# Altium footprint library ATK-2014-09-12.PcbLib: 439 footprints (part 23 of 28)
Each footprint in its own frame and in the unit in brackets; x right, y up, seen from the top. Pads: shape width x height; smd on the part's side, far side on the other; paste and mask are expansions set on the pad; w line width, h text height; cw(c..) or ccw(c..) is an arc to the next point about the centre after c.
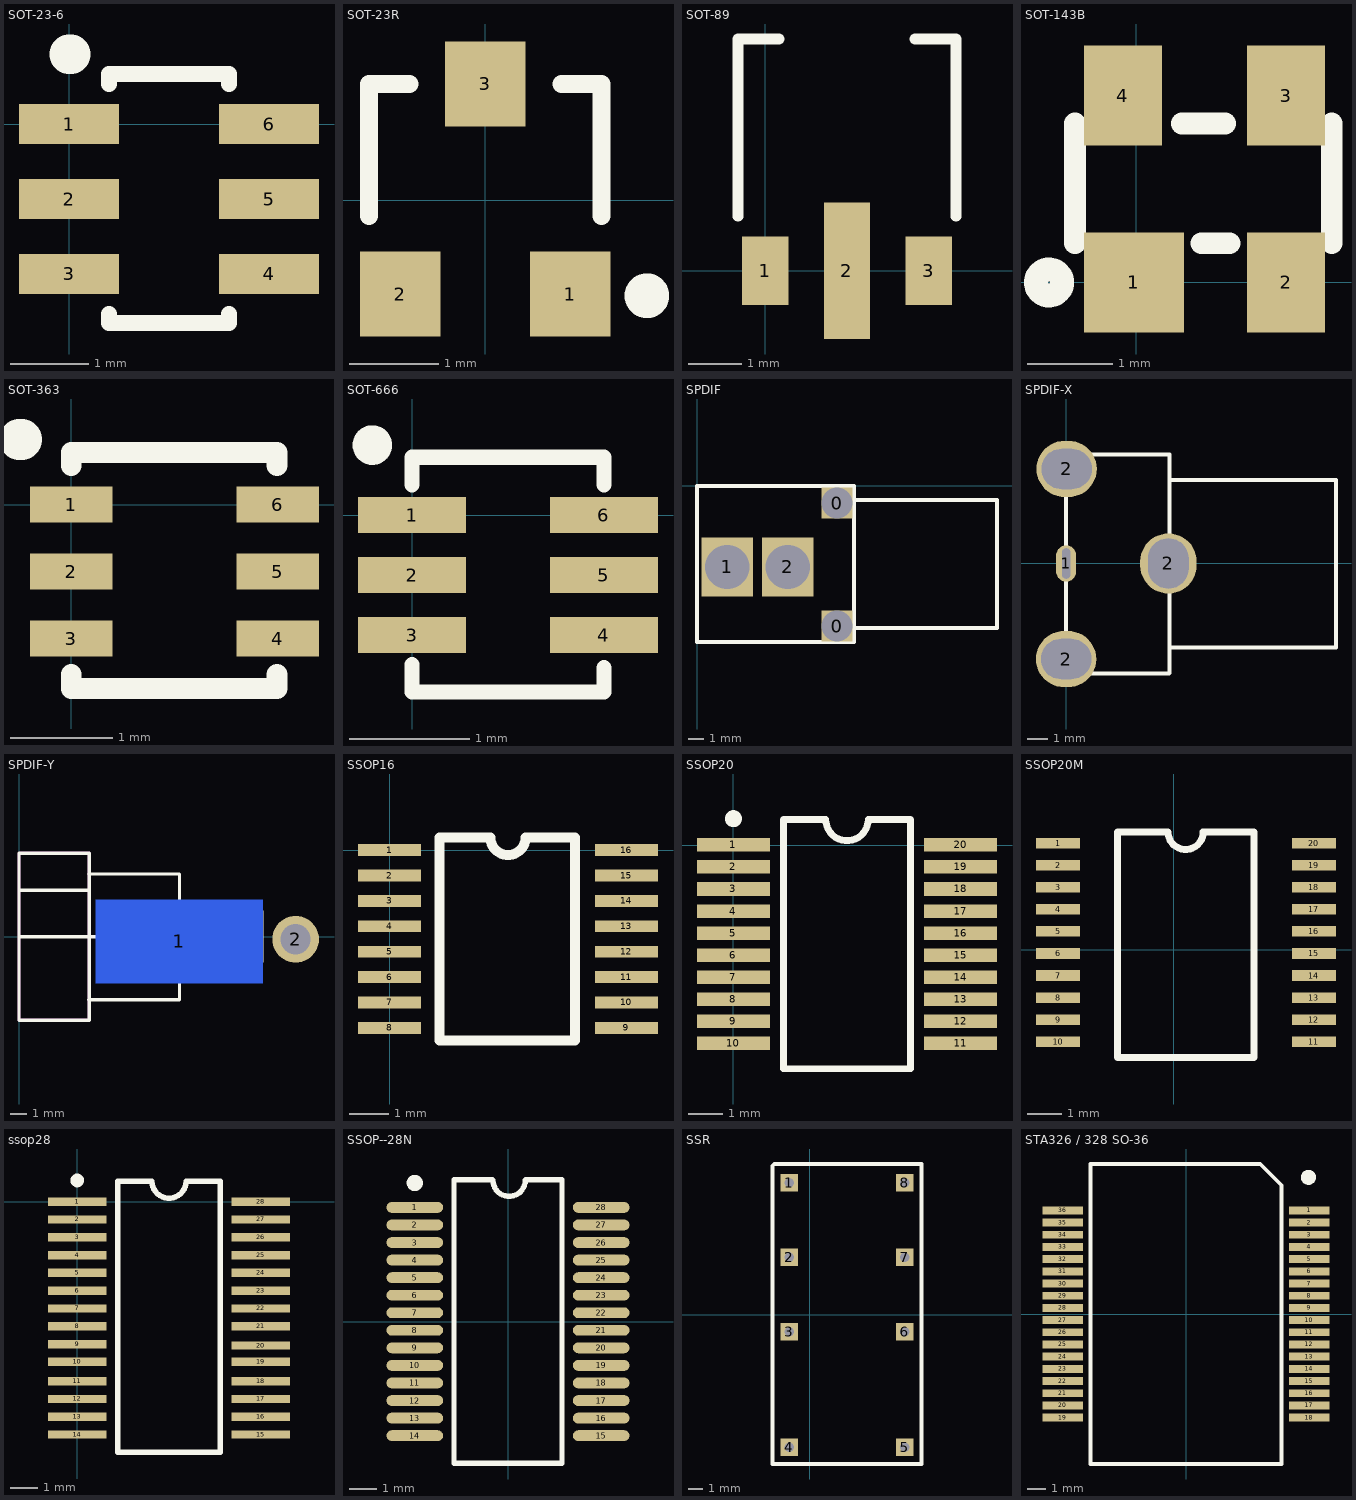
[diagram p22: the footprints below, top view; thin cyan lines are the x and y axes]

## SOT-23-6 [mil]
height 78.74
pads (6):
  rect 50x20 smd: 1(0,0) 2(0,-37.4) 3(0,-74.8) 4(100,-74.8) 5(100,-37.4) 6(100,0)
Top Overlay:
  lines w8: 20,-95 20,-99.32 80,-99.32 80,-95 ; 20,20 20,25 80,25 80,20
  lines w19.68: 0,35 1,35

## SOT-23R [mm] "SOT-23; 3 Leads; Body 3.0 x 2.5 mm, inc. leads (LxW max)"
height 1.2
pads (3):
  rect 0.9x0.95 smd: 1(0.95,-1.048) 2(-0.95,-1.048) 3(0,1.302)
Top Overlay:
  circle w0.25: c1.805,-1.067 r0.125
  lines w0.2: -1.3,-0.173 -1.3,1.302 -0.85,1.302 ; 0.85,1.302 1.3,1.302 1.3,-0.173

## SOT-89 [mil]
pads (3):
  rect 34x50 smd: 1(0,0) 3(120,0)
  rect 34x100 smd: 2(60,0)
Top Overlay:
  lines w8: -20,40 -20,170 10,170 ; 110,170 140,170 140,40
Top Solder:
  lines w80: 60,60 60,140 60,60

## SOT-143B [mil]
height 47.24
pads (4):
  rect 46x46 smd: 1(-1,0)
  rect 36x46 smd: 2(69,0) 3(69,86) 4(-6,86)
Top Overlay:
  circle w11: c-40,0 r6
  lines w10: -28.11,18 -28.11,73.12 ; 21,73.12 41,73.12 ; 30,18 43,18 ; 90,18 90,73.12

## SOT-363 [mm]
height 2
pads (6):
  rect 0.8x0.35 smd: 1(0,0) 2(0,-0.65) 3(0,-1.3) 4(2.007,-1.3) 5(2.007,-0.65) 6(2.007,0)
Top Overlay:
  lines w0.203: 0,-1.651 0,-1.787 1.997,-1.787 1.997,-1.651 ; 0,0.381 0,0.508 1.997,0.508 1.997,0.381
  lines w0.4: -0.508,0.635 -0.483,0.635

## SOT-666 [mm]
pads (6):
  rect 0.9x0.3 smd: 1(0,0) 2(0,-0.5) 3(0,-1) 4(1.6,-1) 5(1.6,-0.5) 6(1.6,0)
Top Overlay:
  circle w0.178: c-0.33,0.584 r0.076
  lines w0.127: 0,-1.245 0,-1.473 1.6,-1.473 1.6,-1.27 ; 0,0.254 0,0.483 1.6,0.483 1.6,0.254

## SPDIF [mm] "DAC同轴插座莲花座端子"
pads (4):
  rect 2x2 hole 2 square: 0(9.017,-9.017) 0(9.017,-1.1)
  rect 3.3x3.8 hole 2.85: 1(1.942,-5.207) 2(5.842,-5.207)
Top Overlay:
  lines w0.254: 10.11,-9.144 10.119,-9.135 19.304,-9.135 19.304,-0.905 10.126,-0.905 10.11,-0.889 ; 0,-10.04 10.11,-10.04 10.11,0 0,0 0,-10.04

## SPDIF-X [mm] "同轴莲花座"
pads (4):
  oval 1x1.8 hole 0.4 slot 1.5 at 90 deg: 1(0,0)
  oval 3x2.8 hole 2 slot 2.5 at 0 deg: 2(0,-4.75) 2(0.025,4.699)
  oval 2.8x3 hole 2 slot 2.5 at 90 deg: 2(5.08,0)
Top Overlay:
  lines w0.2: -0.025,5.41 5.131,5.41 ; 0,-4.75 0,4.699 ; 0.076,-5.461 5.105,-5.461 ; 5.131,-5.436 5.131,5.385 ; 5.131,-4.166 13.411,-4.166 13.411,4.14 5.131,4.14

## SPDIF-Y [mm] "同轴莲花座"
pads (2):
  rect 10x5 smd far side: 1(9.601,-0.279)
  round 2.8 hole 1.8: 2(16.586,-0.152)
Top Overlay:
  lines w0.2: 0,0 14.554,0 ; 0,2.794 4.216,2.794 ; 0,5.004 0,-5.004 4.216,-5.004 4.216,5.004 0.025,5.004 ; 4.191,-3.785 9.627,-3.785 9.627,3.759 4.191,3.759 ; 9.652,1.524 14.554,1.524 14.554,-1.499 9.703,-1.499
Bottom Overlay:
  lines w0.2: 4.191,5.004 11.786,5.004 11.786,-4.978 ; 4.216,-4.978 11.76,-4.978
Keep-Out Layer:
  lines w0.2: 0,-5.004 0,5.004 4.216,5.004 4.216,-4.978 4.191,-5.004 0,-5.004

## SSOP16 [mm] "ADS7843,P2P:0.625mm,w:6mm"
height 1.2
pads (16):
  rect 1.6x0.3 smd: 1(0,0) 2(0,-0.643) 3(0,-1.286) 4(0,-1.929) 5(0,-2.572) 6(0,-3.215) 7(0,-3.858) 8(0,-4.501) 9(6,-4.501) 10(6,-3.858) 11(6,-3.215) 12(6,-2.572) 13(6,-1.929) 14(6,-1.286) 15(6,-0.643) 16(6,0)
Top Overlay:
  lines w0.254: 1.27,-4.822 4.699,-4.822 4.699,0.322 3.447,0.322 cw(c3,0.322) 2.553,0.322 1.27,0.322 1.27,-4.822

## SSOP20 [mm]
height 1
pads (20):
  rect 2.15x0.4 smd: 1(0.003,0.004) 2(0.003,-0.646) 3(0.003,-1.296) 4(0.003,-1.946) 5(0.003,-2.596) 6(0.003,-3.246) 7(0.003,-3.896) 8(0.003,-4.546) 9(0.003,-5.196) 10(0.003,-5.846) 11(6.703,-5.846) 12(6.703,-5.196) 13(6.703,-4.546) 14(6.703,-3.896) 15(6.703,-3.246) 16(6.703,-2.596) 17(6.703,-1.946) 18(6.703,-1.296) 19(6.703,-0.646) 20(6.703,0.004)
Top Overlay:
  circle w0.25: c0.003,0.779 r0.125
  lines w0.2: 1.478,-6.596 5.228,-6.596 5.228,0.754 3.978,0.754 cw(c3.353,0.754) 2.728,0.754 1.478,0.754 1.478,-6.596

## SSOP20M [mil] "SOP20M"
height 59.06
pads (20):
  rect 50x12 smd: 1(-131,121) 2(-131,96) 3(-131,71) 4(-131,46) 5(-131,21) 6(-131,-4) 7(-131,-29) 8(-131,-54) 9(-131,-79) 10(-131,-104) 11(159,-104) 12(159,-79) 13(159,-54) 14(159,-29) 15(159,-4) 16(159,21) 17(159,46) 18(159,71) 19(159,96) 20(159,121)
Top Overlay:
  lines w7.87: -7,133.79 -63.76,133.79 -63.76,-122.11 90.97,-122.11 90.97,133.79 33,133.79 ; -6.39,133.79 ccw(c13.61,133.79) 33.61,133.79

## ssop28 [mm] "SSOP28"
height 6.86
pads (28):
  rect 2.15x0.305 smd: 1(0,0) 2(0,-0.65) 3(0,-1.3) 4(0,-1.95) 5(0,-2.6) 6(0,-3.25) 7(0,-3.9) 8(0,-4.55) 9(0,-5.2) 10(0,-5.85) 11(0,-6.552) 12(0,-7.202) 13(0,-7.852) 14(0,-8.502) 15(6.7,-8.502) 16(6.7,-7.852) 17(6.7,-7.202) 18(6.7,-6.552) 19(6.7,-5.85) 20(6.7,-5.252) 21(6.7,-4.55) 22(6.7,-3.9) 23(6.7,-3.25) 24(6.7,-2.6) 25(6.7,-1.95) 26(6.7,-1.3) 27(6.7,-0.65) 28(6.7,0)
Top Overlay:
  circle w0.25: c0,0.775 r0.125
  lines w0.2: 1.475,-9.144 5.225,-9.144 5.225,0.75 3.975,0.75 cw(c3.35,0.75) 2.725,0.75 1.475,0.75 1.475,-9.144

## SSOP--28N [mm] "SOP, 28-Leads, Body 10.5x5.6mm (max), Pitch 0.65mm, IPC Medium Density"
height 2
pads (28):
  oval 2.1x0.4 smd: 1(-3.45,4.225) 2(-3.45,3.575) 3(-3.45,2.925) 4(-3.45,2.275) 5(-3.45,1.625) 6(-3.45,0.975) 7(-3.45,0.325) 8(-3.45,-0.325) 9(-3.45,-0.975) 10(-3.45,-1.625) 11(-3.45,-2.275) 12(-3.45,-2.925) 13(-3.45,-3.575) 14(-3.45,-4.225) 15(3.45,-4.225) 16(3.45,-3.575) 17(3.45,-2.925) 18(3.45,-2.275) 19(3.45,-1.625) 20(3.45,-0.975) 21(3.45,-0.325) 22(3.45,0.325) 23(3.45,0.975) 24(3.45,1.625) 25(3.45,2.275) 26(3.45,2.925) 27(3.45,3.575) 28(3.45,4.225)
Top Overlay:
  circle w0.3: c-3.452,5.131 r0.15
  lines w0.2: -0.584,5.25 -2,5.25 -2,-5.25 2,-5.25 2,5.25 0.66,5.25 ; -0.559,5.232 ccw(c0.041,5.232) 0.641,5.232

## SSR [mm]
height 12
pads (8):
  rect 1.2x1.2 hole 0.635: 1(-1.397,9.017) 2(-1.397,3.937) 3(-1.397,-1.143) 4(-1.397,-9.017) 5(6.477,-9.017) 6(6.477,-1.143) 7(6.477,3.937) 8(6.477,9.017)
Top Overlay:
  lines w0.254: -2.54,-10.16 7.62,-10.16 7.62,10.287 -2.413,10.287 -2.54,10.16 -2.54,-10.16

## STA326 / 328 SO-36 [mm] "SOP, 36-Leads, Body 16.0x11.1mm (max), Pitch 0.65mm, IPC Medium Density"
height 3.43
pads (36):
  rect 2.15x0.42 smd: 1(6.575,5.525) 2(6.575,4.875) 3(6.575,4.225) 4(6.575,3.575) 5(6.575,2.925) 6(6.575,2.275) 7(6.575,1.625) 8(6.575,0.975) 9(6.575,0.325) 10(6.575,-0.325) 11(6.575,-0.975) 12(6.575,-1.625) 13(6.575,-2.275) 14(6.575,-2.925) 15(6.575,-3.575) 16(6.575,-4.225) 17(6.575,-4.875) 18(6.575,-5.525) 19(-6.575,-5.525) 20(-6.575,-4.875) 21(-6.575,-4.225) 22(-6.575,-3.575) 23(-6.575,-2.925) 24(-6.575,-2.275) 25(-6.575,-1.625) 26(-6.575,-0.975) 27(-6.575,-0.325) 28(-6.575,0.325) 29(-6.575,0.975) 30(-6.575,1.625) 31(-6.575,2.275) 32(-6.575,2.925) 33(-6.575,3.575) 34(-6.575,4.225) 35(-6.575,4.875) 36(-6.575,5.525)
Top Overlay:
  circle w0.5: c6.53,7.29 r0.15
  lines w0.2: -5.1,-8 -5.1,8 3.963,8 5.1,6.863 5.1,-8 -5.1,-8